# Altium footprint library Connector_Molex.PcbLib: 815 footprints (part 3 of 51)
Each footprint in its own frame and in the unit in brackets; x right, y up, seen from the top. Pads: shape width x height; smd on the part's side, far side on the other; paste and mask are expansions set on the pad; w line width, h text height; cw(c..) or ccw(c..) is an arc to the next point about the centre after c.
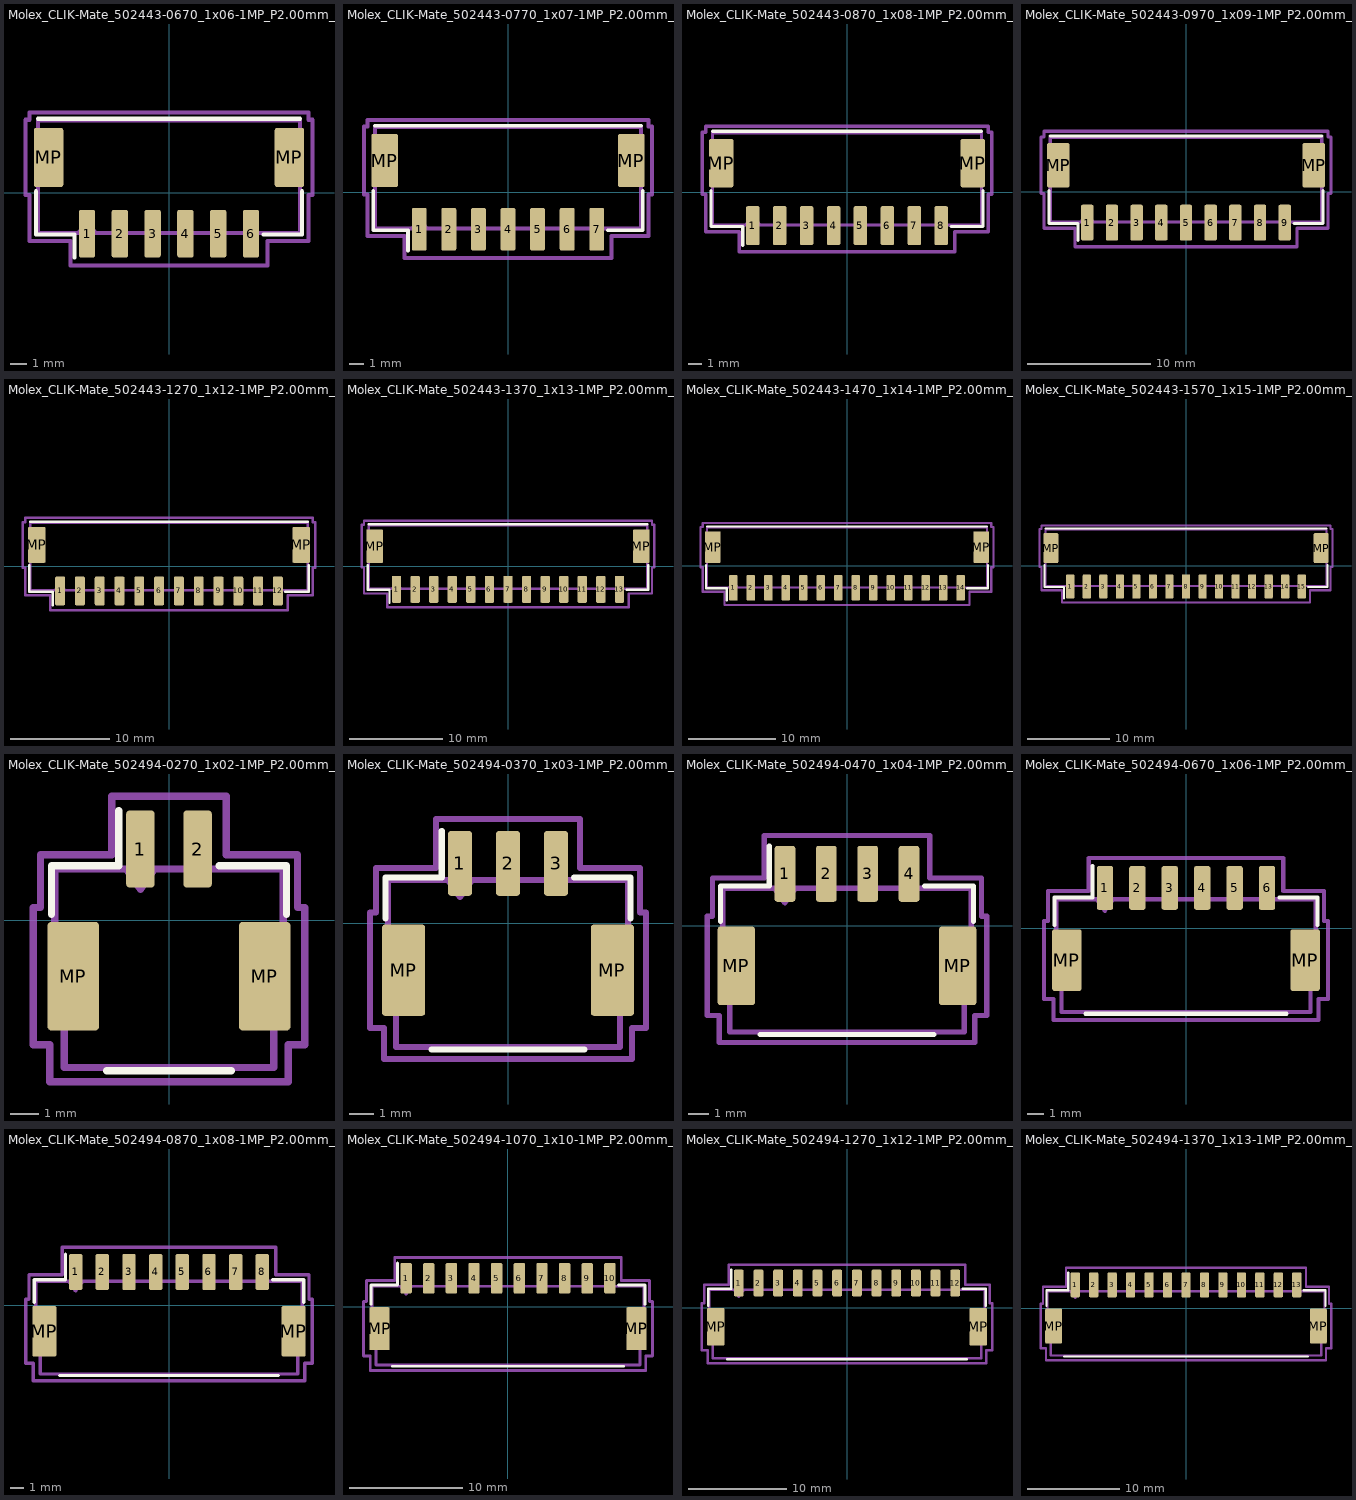
[diagram p2: the footprints below, top view; thin cyan lines are the x and y axes]

## Molex_CLIK-Mate_502443-0670_1x06-1MP_P2.00mm_Vertical [mm]
pads (8):
  rrect25% 1x2.9 smd: 1(-5,-2.5) 2(-3,-2.5) 3(-1,-2.5) 4(1,-2.5) 5(3,-2.5) 6(5,-2.5)
  rrect14% 1.8x3.6 smd: MP(-7.35,2.15) MP(7.35,2.15)
F.SilkS:
  lines w0.254: -8.11,0.09 -8.11,-2.56 -5.76,-2.56 -5.76,-3.95 ; -8,4.51 8,4.51 ; 5.76,-2.56 8.11,-2.56 8.11,0.09
Top Assembly:
  lines w0.254: -5.5,-2.45 -5,-1.743 -4.5,-2.45 ; -8,-2.45 8,-2.45 8,4.4 -8,4.4 -8,-2.45
  text "'.Designator'" at -4.047,0.14 h1
Top Courtyard:
  lines w0.254: -8.75,-0.15 -8.5,-0.15 -8.5,-2.95 -6,-2.95 -6,-4.45 6,-4.45 6,-2.95 8.5,-2.95 8.5,-0.15 8.75,-0.15 8.75,4.45 8.5,4.45 8.5,4.9 -8.5,4.9 -8.5,4.45 -8.75,4.45 -8.75,-0.15
Top Designator:
  text ".Designator" at -7.618,-0.283 h1.52

## Molex_CLIK-Mate_502443-0770_1x07-1MP_P2.00mm_Vertical [mm]
pads (9):
  rrect25% 1x2.9 smd: 1(-6,-2.5) 2(-4,-2.5) 3(-2,-2.5) 4(0,-2.5) 5(2,-2.5) 6(4,-2.5) 7(6,-2.5)
  rrect14% 1.8x3.6 smd: MP(-8.35,2.15) MP(8.35,2.15)
F.SilkS:
  lines w0.254: -9.11,0.09 -9.11,-2.56 -6.76,-2.56 -6.76,-3.95 ; -9,4.51 9,4.51 ; 6.76,-2.56 9.11,-2.56 9.11,0.09
Top Assembly:
  lines w0.254: -6.5,-2.45 -6,-1.743 -5.5,-2.45 ; -9,-2.45 9,-2.45 9,4.4 -9,4.4 -9,-2.45
  text "'.Designator'" at -4.047,0.14 h1
Top Courtyard:
  lines w0.254: -9.75,-0.15 -9.5,-0.15 -9.5,-2.95 -7,-2.95 -7,-4.45 7,-4.45 7,-2.95 9.5,-2.95 9.5,-0.15 9.75,-0.15 9.75,4.45 9.5,4.45 9.5,4.9 -9.5,4.9 -9.5,4.45 -9.75,4.45 -9.75,-0.15
Top Designator:
  text ".Designator" at -7.618,-0.283 h1.52

## Molex_CLIK-Mate_502443-0870_1x08-1MP_P2.00mm_Vertical [mm]
pads (10):
  rrect25% 1x2.9 smd: 1(-7,-2.5) 2(-5,-2.5) 3(-3,-2.5) 4(-1,-2.5) 5(1,-2.5) 6(3,-2.5) 7(5,-2.5) 8(7,-2.5)
  rrect14% 1.8x3.6 smd: MP(-9.35,2.15) MP(9.35,2.15)
F.SilkS:
  lines w0.254: -10.11,0.09 -10.11,-2.56 -7.76,-2.56 -7.76,-3.95 ; -10,4.51 10,4.51 ; 7.76,-2.56 10.11,-2.56 10.11,0.09
Top Assembly:
  lines w0.254: -7.5,-2.45 -7,-1.743 -6.5,-2.45 ; -10,-2.45 10,-2.45 10,4.4 -10,4.4 -10,-2.45
  text "'.Designator'" at -4.047,0.14 h1
Top Courtyard:
  lines w0.254: -10.75,-0.15 -10.5,-0.15 -10.5,-2.95 -8,-2.95 -8,-4.45 8,-4.45 8,-2.95 10.5,-2.95 10.5,-0.15 10.75,-0.15 10.75,4.45 10.5,4.45 10.5,4.9 -10.5,4.9 -10.5,4.45 -10.75,4.45 -10.75,-0.15
Top Designator:
  text ".Designator" at -7.618,-0.283 h1.52

## Molex_CLIK-Mate_502443-0970_1x09-1MP_P2.00mm_Vertical [mm]
pads (11):
  rrect25% 1x2.9 smd: 1(-8,-2.5) 2(-6,-2.5) 3(-4,-2.5) 4(-2,-2.5) 5(0,-2.5) 6(2,-2.5) 7(4,-2.5) 8(6,-2.5) 9(8,-2.5)
  rrect14% 1.8x3.6 smd: MP(-10.35,2.15) MP(10.35,2.15)
F.SilkS:
  lines w0.254: -11.11,0.09 -11.11,-2.56 -8.76,-2.56 -8.76,-3.95 ; -11,4.51 11,4.51 ; 8.76,-2.56 11.11,-2.56 11.11,0.09
Top Assembly:
  lines w0.254: -8.5,-2.45 -8,-1.743 -7.5,-2.45 ; -11,-2.45 11,-2.45 11,4.4 -11,4.4 -11,-2.45
  text "'.Designator'" at -4.047,0.14 h1
Top Courtyard:
  lines w0.254: -11.75,-0.15 -11.5,-0.15 -11.5,-2.95 -9,-2.95 -9,-4.45 9,-4.45 9,-2.95 11.5,-2.95 11.5,-0.15 11.75,-0.15 11.75,4.45 11.5,4.45 11.5,4.9 -11.5,4.9 -11.5,4.45 -11.75,4.45 -11.75,-0.15
Top Designator:
  text ".Designator" at -7.618,-0.283 h1.52

## Molex_CLIK-Mate_502443-1270_1x12-1MP_P2.00mm_Vertical [mm]
pads (14):
  rrect25% 1x2.9 smd: 1(-11,-2.5) 2(-9,-2.5) 3(-7,-2.5) 4(-5,-2.5) 5(-3,-2.5) 6(-1,-2.5) 7(1,-2.5) 8(3,-2.5) 9(5,-2.5) 10(7,-2.5) 11(9,-2.5) 12(11,-2.5)
  rrect14% 1.8x3.6 smd: MP(-13.35,2.15) MP(13.35,2.15)
F.SilkS:
  lines w0.254: -14.11,0.09 -14.11,-2.56 -11.76,-2.56 -11.76,-3.95 ; -14,4.51 14,4.51 ; 11.76,-2.56 14.11,-2.56 14.11,0.09
Top Assembly:
  lines w0.254: -11.5,-2.45 -11,-1.743 -10.5,-2.45 ; -14,-2.45 14,-2.45 14,4.4 -14,4.4 -14,-2.45
  text "'.Designator'" at -4.047,0.14 h1
Top Courtyard:
  lines w0.254: -14.75,-0.15 -14.5,-0.15 -14.5,-2.95 -12,-2.95 -12,-4.45 12,-4.45 12,-2.95 14.5,-2.95 14.5,-0.15 14.75,-0.15 14.75,4.45 14.5,4.45 14.5,4.9 -14.5,4.9 -14.5,4.45 -14.75,4.45 -14.75,-0.15
Top Designator:
  text ".Designator" at -7.618,-0.283 h1.52

## Molex_CLIK-Mate_502443-1370_1x13-1MP_P2.00mm_Vertical [mm]
pads (15):
  rrect25% 1x2.9 smd: 1(-12,-2.5) 2(-10,-2.5) 3(-8,-2.5) 4(-6,-2.5) 5(-4,-2.5) 6(-2,-2.5) 7(0,-2.5) 8(2,-2.5) 9(4,-2.5) 10(6,-2.5) 11(8,-2.5) 12(10,-2.5) 13(12,-2.5)
  rrect14% 1.8x3.6 smd: MP(-14.35,2.15) MP(14.35,2.15)
F.SilkS:
  lines w0.254: -15.11,0.09 -15.11,-2.56 -12.76,-2.56 -12.76,-3.95 ; -15,4.51 15,4.51 ; 12.76,-2.56 15.11,-2.56 15.11,0.09
Top Assembly:
  lines w0.254: -12.5,-2.45 -12,-1.743 -11.5,-2.45 ; -15,-2.45 15,-2.45 15,4.4 -15,4.4 -15,-2.45
  text "'.Designator'" at -4.047,0.14 h1
Top Courtyard:
  lines w0.254: -15.75,-0.15 -15.5,-0.15 -15.5,-2.95 -13,-2.95 -13,-4.45 13,-4.45 13,-2.95 15.5,-2.95 15.5,-0.15 15.75,-0.15 15.75,4.45 15.5,4.45 15.5,4.9 -15.5,4.9 -15.5,4.45 -15.75,4.45 -15.75,-0.15
Top Designator:
  text ".Designator" at -7.618,-0.283 h1.52

## Molex_CLIK-Mate_502443-1470_1x14-1MP_P2.00mm_Vertical [mm]
pads (16):
  rrect25% 1x2.9 smd: 1(-13,-2.5) 2(-11,-2.5) 3(-9,-2.5) 4(-7,-2.5) 5(-5,-2.5) 6(-3,-2.5) 7(-1,-2.5) 8(1,-2.5) 9(3,-2.5) 10(5,-2.5) 11(7,-2.5) 12(9,-2.5) 13(11,-2.5) 14(13,-2.5)
  rrect14% 1.8x3.6 smd: MP(-15.35,2.15) MP(15.35,2.15)
F.SilkS:
  lines w0.254: -16.11,0.09 -16.11,-2.56 -13.76,-2.56 -13.76,-3.95 ; -16,4.51 16,4.51 ; 13.76,-2.56 16.11,-2.56 16.11,0.09
Top Assembly:
  lines w0.254: -13.5,-2.45 -13,-1.743 -12.5,-2.45 ; -16,-2.45 16,-2.45 16,4.4 -16,4.4 -16,-2.45
  text "'.Designator'" at -4.047,0.14 h1
Top Courtyard:
  lines w0.254: -16.75,-0.15 -16.5,-0.15 -16.5,-2.95 -14,-2.95 -14,-4.45 14,-4.45 14,-2.95 16.5,-2.95 16.5,-0.15 16.75,-0.15 16.75,4.45 16.5,4.45 16.5,4.9 -16.5,4.9 -16.5,4.45 -16.75,4.45 -16.75,-0.15
Top Designator:
  text ".Designator" at -7.618,-0.283 h1.52

## Molex_CLIK-Mate_502443-1570_1x15-1MP_P2.00mm_Vertical [mm]
pads (17):
  rrect25% 1x2.9 smd: 1(-14,-2.5) 2(-12,-2.5) 3(-10,-2.5) 4(-8,-2.5) 5(-6,-2.5) 6(-4,-2.5) 7(-2,-2.5) 8(0,-2.5) 9(2,-2.5) 10(4,-2.5) 11(6,-2.5) 12(8,-2.5) 13(10,-2.5) 14(12,-2.5) 15(14,-2.5)
  rrect14% 1.8x3.6 smd: MP(-16.35,2.15) MP(16.35,2.15)
F.SilkS:
  lines w0.254: -17.11,0.09 -17.11,-2.56 -14.76,-2.56 -14.76,-3.95 ; -17,4.51 17,4.51 ; 14.76,-2.56 17.11,-2.56 17.11,0.09
Top Assembly:
  lines w0.254: -14.5,-2.45 -14,-1.743 -13.5,-2.45 ; -17,-2.45 17,-2.45 17,4.4 -17,4.4 -17,-2.45
  text "'.Designator'" at -4.047,0.14 h1
Top Courtyard:
  lines w0.254: -17.75,-0.15 -17.5,-0.15 -17.5,-2.95 -15,-2.95 -15,-4.45 15,-4.45 15,-2.95 17.5,-2.95 17.5,-0.15 17.75,-0.15 17.75,4.45 17.5,4.45 17.5,4.9 -17.5,4.9 -17.5,4.45 -17.75,4.45 -17.75,-0.15
Top Designator:
  text ".Designator" at -7.618,-0.283 h1.52

## Molex_CLIK-Mate_502494-0270_1x02-1MP_P2.00mm_Horizontal [mm]
pads (4):
  rrect25% 1x2.7 smd: 1(-1,2.5) 2(1,2.5)
  rrect14% 1.8x3.8 smd: MP(-3.35,-1.95) MP(3.35,-1.95)
F.SilkS:
  lines w0.254: -4.11,0.21 -4.11,1.91 -1.76,1.91 -1.76,3.85 ; -2.19,-5.26 2.19,-5.26 ; 1.76,1.91 4.11,1.91 4.11,0.21
Top Assembly:
  lines w0.254: -1.5,1.8 -1,1.093 -0.5,1.8 ; -4,-2.55 -3.67,-2.55 -3.67,-5.15 3.67,-5.15 3.67,-2.55 4,-2.55 4,1.8 -4,1.8 -4,-2.55
  text "'.Designator'" at -4.047,-1.22 h1
Top Courtyard:
  lines w0.254: -4.75,-4.35 -4.17,-4.35 -4.17,-5.65 4.17,-5.65 4.17,-4.35 4.75,-4.35 4.75,0.45 4.5,0.45 4.5,2.3 2,2.3 2,4.35 -2,4.35 -2,2.3 -4.5,2.3 -4.5,0.45 -4.75,0.45 -4.75,-4.35
Top Designator:
  text ".Designator" at -7.618,-1.158 h1.52

## Molex_CLIK-Mate_502494-0370_1x03-1MP_P2.00mm_Horizontal [mm]
pads (5):
  rrect25% 1x2.7 smd: 1(-2,2.5) 2(0,2.5) 3(2,2.5)
  rrect14% 1.8x3.8 smd: MP(-4.35,-1.95) MP(4.35,-1.95)
F.SilkS:
  lines w0.254: -5.11,0.21 -5.11,1.91 -2.76,1.91 -2.76,3.85 ; -3.19,-5.26 3.19,-5.26 ; 2.76,1.91 5.11,1.91 5.11,0.21
Top Assembly:
  lines w0.254: -2.5,1.8 -2,1.093 -1.5,1.8 ; -5,-2.55 -4.67,-2.55 -4.67,-5.15 4.67,-5.15 4.67,-2.55 5,-2.55 5,1.8 -5,1.8 -5,-2.55
  text "'.Designator'" at -4.047,-1.22 h1
Top Courtyard:
  lines w0.254: -5.75,-4.35 -5.17,-4.35 -5.17,-5.65 5.17,-5.65 5.17,-4.35 5.75,-4.35 5.75,0.45 5.5,0.45 5.5,2.3 3,2.3 3,4.35 -3,4.35 -3,2.3 -5.5,2.3 -5.5,0.45 -5.75,0.45 -5.75,-4.35
Top Designator:
  text ".Designator" at -7.618,-1.158 h1.52

## Molex_CLIK-Mate_502494-0470_1x04-1MP_P2.00mm_Horizontal [mm]
pads (6):
  rrect25% 1x2.7 smd: 1(-3,2.5) 2(-1,2.5) 3(1,2.5) 4(3,2.5)
  rrect14% 1.8x3.8 smd: MP(-5.35,-1.95) MP(5.35,-1.95)
F.SilkS:
  lines w0.254: -6.11,0.21 -6.11,1.91 -3.76,1.91 -3.76,3.85 ; -4.19,-5.26 4.19,-5.26 ; 3.76,1.91 6.11,1.91 6.11,0.21
Top Assembly:
  lines w0.254: -3.5,1.8 -3,1.093 -2.5,1.8 ; -6,-2.55 -5.67,-2.55 -5.67,-5.15 5.67,-5.15 5.67,-2.55 6,-2.55 6,1.8 -6,1.8 -6,-2.55
  text "'.Designator'" at -4.047,-1.22 h1
Top Courtyard:
  lines w0.254: -6.75,-4.35 -6.17,-4.35 -6.17,-5.65 6.17,-5.65 6.17,-4.35 6.75,-4.35 6.75,0.45 6.5,0.45 6.5,2.3 4,2.3 4,4.35 -4,4.35 -4,2.3 -6.5,2.3 -6.5,0.45 -6.75,0.45 -6.75,-4.35
Top Designator:
  text ".Designator" at -7.618,-1.158 h1.52

## Molex_CLIK-Mate_502494-0670_1x06-1MP_P2.00mm_Horizontal [mm]
pads (8):
  rrect25% 1x2.7 smd: 1(-5,2.5) 2(-3,2.5) 3(-1,2.5) 4(1,2.5) 5(3,2.5) 6(5,2.5)
  rrect14% 1.8x3.8 smd: MP(-7.35,-1.95) MP(7.35,-1.95)
F.SilkS:
  lines w0.254: -8.11,0.21 -8.11,1.91 -5.76,1.91 -5.76,3.85 ; -6.19,-5.26 6.19,-5.26 ; 5.76,1.91 8.11,1.91 8.11,0.21
Top Assembly:
  lines w0.254: -5.5,1.8 -5,1.093 -4.5,1.8 ; -8,-2.55 -7.67,-2.55 -7.67,-5.15 7.67,-5.15 7.67,-2.55 8,-2.55 8,1.8 -8,1.8 -8,-2.55
  text "'.Designator'" at -4.047,-1.22 h1
Top Courtyard:
  lines w0.254: -8.75,-4.35 -8.17,-4.35 -8.17,-5.65 8.17,-5.65 8.17,-4.35 8.75,-4.35 8.75,0.45 8.5,0.45 8.5,2.3 6,2.3 6,4.35 -6,4.35 -6,2.3 -8.5,2.3 -8.5,0.45 -8.75,0.45 -8.75,-4.35
Top Designator:
  text ".Designator" at -7.618,-1.158 h1.52

## Molex_CLIK-Mate_502494-0870_1x08-1MP_P2.00mm_Horizontal [mm]
pads (10):
  rrect25% 1x2.7 smd: 1(-7,2.5) 2(-5,2.5) 3(-3,2.5) 4(-1,2.5) 5(1,2.5) 6(3,2.5) 7(5,2.5) 8(7,2.5)
  rrect14% 1.8x3.8 smd: MP(-9.35,-1.95) MP(9.35,-1.95)
F.SilkS:
  lines w0.254: -10.11,0.21 -10.11,1.91 -7.76,1.91 -7.76,3.85 ; -8.19,-5.26 8.19,-5.26 ; 7.76,1.91 10.11,1.91 10.11,0.21
Top Assembly:
  lines w0.254: -7.5,1.8 -7,1.093 -6.5,1.8 ; -10,-2.55 -9.67,-2.55 -9.67,-5.15 9.67,-5.15 9.67,-2.55 10,-2.55 10,1.8 -10,1.8 -10,-2.55
  text "'.Designator'" at -4.047,-1.22 h1
Top Courtyard:
  lines w0.254: -10.75,-4.35 -10.17,-4.35 -10.17,-5.65 10.17,-5.65 10.17,-4.35 10.75,-4.35 10.75,0.45 10.5,0.45 10.5,2.3 8,2.3 8,4.35 -8,4.35 -8,2.3 -10.5,2.3 -10.5,0.45 -10.75,0.45 -10.75,-4.35
Top Designator:
  text ".Designator" at -7.618,-1.158 h1.52

## Molex_CLIK-Mate_502494-1070_1x10-1MP_P2.00mm_Horizontal [mm]
pads (12):
  rrect25% 1x2.7 smd: 1(-9,2.5) 2(-7,2.5) 3(-5,2.5) 4(-3,2.5) 5(-1,2.5) 6(1,2.5) 7(3,2.5) 8(5,2.5) 9(7,2.5) 10(9,2.5)
  rrect14% 1.8x3.8 smd: MP(-11.35,-1.95) MP(11.35,-1.95)
F.SilkS:
  lines w0.254: -12.11,0.21 -12.11,1.91 -9.76,1.91 -9.76,3.85 ; -10.19,-5.26 10.19,-5.26 ; 9.76,1.91 12.11,1.91 12.11,0.21
Top Assembly:
  lines w0.254: -9.5,1.8 -9,1.093 -8.5,1.8 ; -12,-2.55 -11.67,-2.55 -11.67,-5.15 11.67,-5.15 11.67,-2.55 12,-2.55 12,1.8 -12,1.8 -12,-2.55
  text "'.Designator'" at -4.047,-1.22 h1
Top Courtyard:
  lines w0.254: -12.75,-4.35 -12.17,-4.35 -12.17,-5.65 12.17,-5.65 12.17,-4.35 12.75,-4.35 12.75,0.45 12.5,0.45 12.5,2.3 10,2.3 10,4.35 -10,4.35 -10,2.3 -12.5,2.3 -12.5,0.45 -12.75,0.45 -12.75,-4.35
Top Designator:
  text ".Designator" at -7.618,-1.158 h1.52

## Molex_CLIK-Mate_502494-1270_1x12-1MP_P2.00mm_Horizontal [mm]
pads (14):
  rrect25% 1x2.7 smd: 1(-11,2.5) 2(-9,2.5) 3(-7,2.5) 4(-5,2.5) 5(-3,2.5) 6(-1,2.5) 7(1,2.5) 8(3,2.5) 9(5,2.5) 10(7,2.5) 11(9,2.5) 12(11,2.5)
  rrect14% 1.8x3.8 smd: MP(-13.35,-1.95) MP(13.35,-1.95)
F.SilkS:
  lines w0.254: -14.11,0.21 -14.11,1.91 -11.76,1.91 -11.76,3.85 ; -12.19,-5.26 12.19,-5.26 ; 11.76,1.91 14.11,1.91 14.11,0.21
Top Assembly:
  lines w0.254: -11.5,1.8 -11,1.093 -10.5,1.8 ; -14,-2.55 -13.67,-2.55 -13.67,-5.15 13.67,-5.15 13.67,-2.55 14,-2.55 14,1.8 -14,1.8 -14,-2.55
  text "'.Designator'" at -4.047,-1.22 h1
Top Courtyard:
  lines w0.254: -14.75,-4.35 -14.17,-4.35 -14.17,-5.65 14.17,-5.65 14.17,-4.35 14.75,-4.35 14.75,0.45 14.5,0.45 14.5,2.3 12,2.3 12,4.35 -12,4.35 -12,2.3 -14.5,2.3 -14.5,0.45 -14.75,0.45 -14.75,-4.35
Top Designator:
  text ".Designator" at -7.618,-1.158 h1.52

## Molex_CLIK-Mate_502494-1370_1x13-1MP_P2.00mm_Horizontal [mm]
pads (15):
  rrect25% 1x2.7 smd: 1(-12,2.5) 2(-10,2.5) 3(-8,2.5) 4(-6,2.5) 5(-4,2.5) 6(-2,2.5) 7(0,2.5) 8(2,2.5) 9(4,2.5) 10(6,2.5) 11(8,2.5) 12(10,2.5) 13(12,2.5)
  rrect14% 1.8x3.8 smd: MP(-14.35,-1.95) MP(14.35,-1.95)
F.SilkS:
  lines w0.254: -15.11,0.21 -15.11,1.91 -12.76,1.91 -12.76,3.85 ; -13.19,-5.26 13.19,-5.26 ; 12.76,1.91 15.11,1.91 15.11,0.21
Top Assembly:
  lines w0.254: -12.5,1.8 -12,1.093 -11.5,1.8 ; -15,-2.55 -14.67,-2.55 -14.67,-5.15 14.67,-5.15 14.67,-2.55 15,-2.55 15,1.8 -15,1.8 -15,-2.55
  text "'.Designator'" at -4.047,-1.22 h1
Top Courtyard:
  lines w0.254: -15.75,-4.35 -15.17,-4.35 -15.17,-5.65 15.17,-5.65 15.17,-4.35 15.75,-4.35 15.75,0.45 15.5,0.45 15.5,2.3 13,2.3 13,4.35 -13,4.35 -13,2.3 -15.5,2.3 -15.5,0.45 -15.75,0.45 -15.75,-4.35
Top Designator:
  text ".Designator" at -7.618,-1.158 h1.52